# EAGLE library part MAX232AESE-T (library DECADE-libraries)
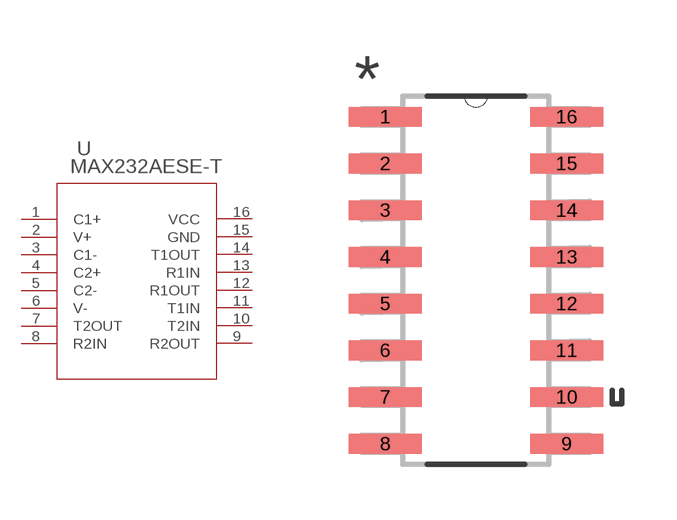
[diagram p104: symbol with the pads of 21-0041B_16; footprint 21-0041B_16]

Designator prefix U

## MAX232AESE-T (MANUFACTURER_NAME: Maxim; MANUFACTURER_PART_NUMBER: MAX232AESE-T ?; VENDOR: Maxim)  [21-0041B_16]
1  C1+
2  V+  pwr
3  C1-
4  C2+
5  C2-
6  V-  pwr
7  T2OUT  out
8  R2IN  in
9  R2OUT  out
10  T2IN  in
11  T1IN  in
12  R1OUT  out
13  R1IN  in
14  T1OUT  out
15  GND  pwr
16  VCC  pwr

## Footprint 21-0041B_16 (pad centres in mm)
smd 1.981 x 0.533: 1 -2.464,4.445; 2 -2.464,3.175; 3 -2.464,1.905; 4 -2.464,0.635; 5 -2.464,-0.635; 6 -2.464,-1.905; 7 -2.464,-3.175; 8 -2.464,-4.445; 9 2.464,-4.445; 10 2.464,-3.175; 11 2.464,-1.905; 12 2.464,-0.635; 13 2.464,0.635; 14 2.464,1.905; 15 2.464,3.175; 16 2.464,4.445